# EAGLE library part WE-RJ45_7499111447 (library WE-RJ45_LAN)
WE-RJ45 LAN Transformer Characteristics RJ45 Connector with integrated transformer / common mode choke Power over Ethernet up to 50 Watt and speeds up to 10 Gbit/s Available in SMD, THT and THT with USB Compliant with standards: IEEE 802.3u, IEEE 802.3ab, IEEE 802.3af, IEEE 802.3at, IEEE 802.3an and upcoming IEE 802.3bt Applications Suitable for industrial temperatures from –40 °C up to +85 °C Compatible to Industrial Ethernet systems like EtherCAT or Profinet Compliant with most IC’s for Ethernet applications such as Microchip, Texas Instruments, Broadcom, Linear Technology Hubs, Routers, Switches, IP cameras, IoT applications Details see: www.we-online.com/components/products/WE-LAN-RJ45 Updated by Ella Wu 2019-08-05 2019 (C) Würth Elektronik
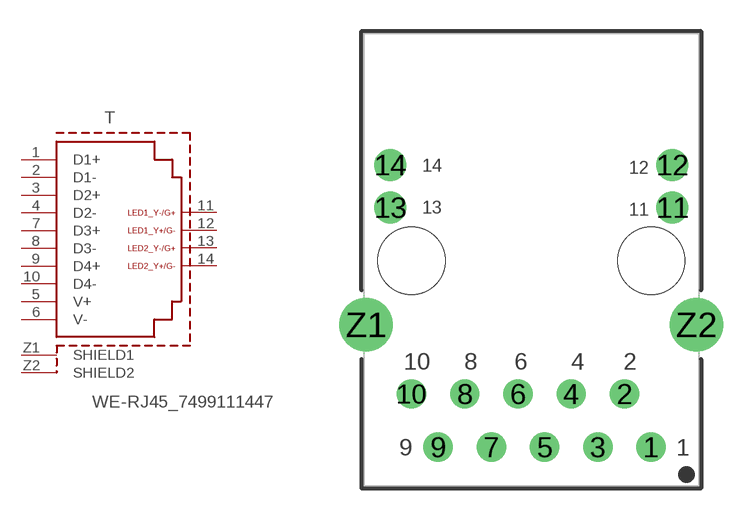
[diagram p88: symbol with the pads of 7499111447; footprint 7499111447]

Designator prefix T

## WE-RJ45_7499111447 (DATA-RATE: 1000BASE-T; DATASHEET: https://www.we-online.com/redexpert/spec/7499111447?ae; IMPROVED-CMRR: No; LED: green/yellow - green/yellow; MOUNT: THT; OPERATING-TEMPERATURE: -40 °C up to +85 °C; PART-NUMBER: 7499111447; PHY-CHIP-MODE: current; POE: non-PoE; PORTS: 1; SHIELD-TABS: Yes; TAB: Up; USB: No; VALUE: 7499111447)  [7499111447]
1  D1+  pas
2  D1-  pas
3  D2+  pas
4  D2-  pas
5  V+  pas
6  V-  pas
7  D3+  pas
8  D3-  pas
9  D4+  pas
10  D4-  pas
11  LED1_Y-/G+  pas
12  LED1_Y+/G-  pas
13  LED2_Y-/G+  pas
14  LED2_Y+/G-  pas
Z1  SHIELD1  pas
Z2  SHIELD2  pas

## Footprint 7499111447 (pad centres in mm)
WE-RJ45 LAN Transformer 1000BASE-T, Ports:1, Tab:Up
drill 0.89: 1 5.715,-8.89; 2 4.445,-6.35; 3 3.175,-8.89; 4 1.905,-6.35; 5 0.635,-8.89; 6 -0.635,-6.35; 7 -1.905,-8.89; 8 -3.175,-6.35; 9 -4.445,-8.89; 10 -5.715,-6.35
drill 1.02: 11 6.725,2.54; 12 6.725,4.57; 13 -6.725,2.54; 14 -6.725,4.57
drill 1.7: Z1 -7.875,-3.05; Z2 7.875,-3.05
hole 3.2 at 5.715,0
hole 3.2 at -5.715,0